# Altium footprint library PG-TO263-7-3.PcbLib: 1 footprints
Each footprint in its own frame and in the unit in brackets; x right, y up, seen from the top. Pads: shape width x height; smd on the part's side, far side on the other; paste and mask are expansions set on the pad; w line width, h text height; cw(c..) or ccw(c..) is an arc to the next point about the centre after c.
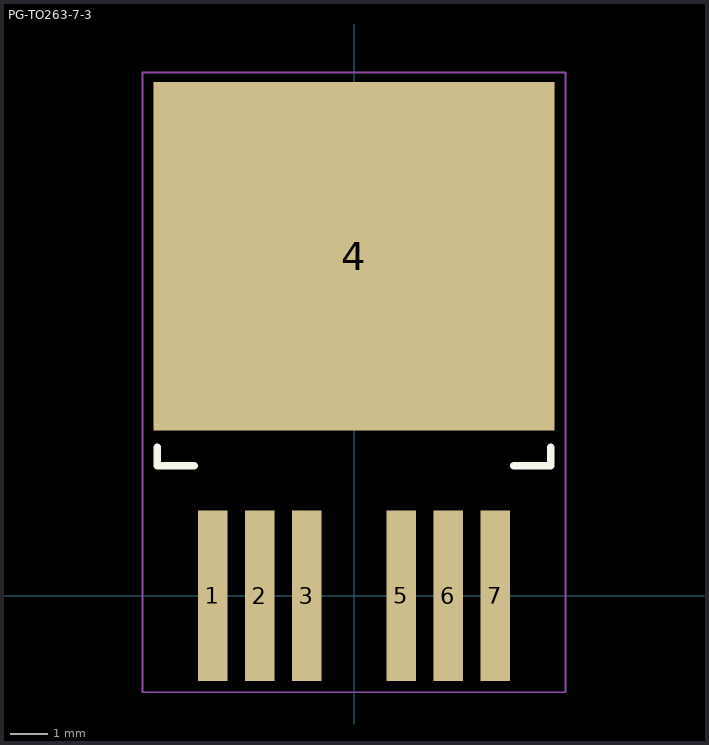
[diagram p0: the footprint, top view; thin cyan lines are the x and y axes]

## PG-TO263-7-3 [mm] "Power Transistor Package"
pads (7):
  rect 0.8x4.6 smd: 1(-3.81,0) 2(-2.54,0) 3(-1.27,0) 5(1.27,0) 6(2.54,0) 7(3.81,0)
  rect 10.8x9.4 smd: 4(0,9.15)
Top Overlay:
  lines w0.2: -5.3,4 -5.3,3.5 -4.3,3.5 ; 4.3,3.5 5.3,3.5 5.3,4
Mechanical 15:
  lines w0.05: -5.7,-2.6 -5.7,14.1 5.7,14.1 5.7,-2.6 -5.7,-2.6
3D body: height 4.4, standoff 0, extent -5.3,3.5 5.3,12.8
3D body: height 1.27, standoff 0, extent -5.3,3.5 5.3,13.8